# Altium schematic symbol library SCH - DRIVER - MOTOR - ROHM BD62220AEFV.SCHLIB: 1 symbol
Pins are listed as number, name and electrical type; pins without a type are passive.

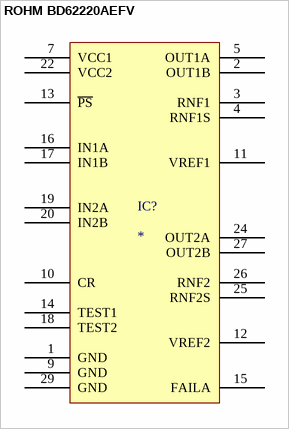
[diagram p0: symbol ROHM BD62220AEFV]

## ROHM BD62220AEFV
designator IC?
pins: 1 GND, 2 OUT1B, 3 RNF1, 4 RNF1S, 5 OUT1A, 7 VCC1, 9 GND, 10 CR, 11 VREF1, 12 VREF2, 13 ~{PS}, 14 TEST1, 15 FAILA, 16 IN1A, 17 IN1B, 18 TEST2, 19 IN2A, 20 IN2B, 22 VCC2, 24 OUT2A, 25 RNF2S, 26 RNF2, 27 OUT2B, 29 GND